# EAGLE library part 691321100012 (library Wurth_Connectors_WR-TBL Pluggable Connector)
WR-TBL Serie 3211 - 3.50 mm Vertical PCB Header KIND PROPERTIES Pitch 3.5 mm MATERIAL PROPERTIES Insulator Material PA66 Insulator Flammability Rating UL94 V-0 Contact Material Brass Contact Plating Tin GENERAL INFORMATION Operating Temperature -40 up to +105 °C Compliance RoHS ELECTRICAL PROPERTIES IR cULus 10 A IR VDE 10.5 A Working Voltage [cULus] 300 V (AC) Working Voltage [VDE] 300 V (AC) Withstanding Voltage [cULus] 1600 V (AC) Withstanding Voltage [VDE] 2500 V (AC) Contact Resistance [cULus] 20 mΩ Contact Resistance [VDE] 20 mΩ CERTIFICATION cULus Approval E315414 VDE Approval 40023195 <https://www.we-online.com/catalog/media/o33274v209%20Family_WR-TBL_69132110000x.jpg> Details see: https://www.we-online.com/catalog/en/TBL_3_50_3211_VERTICAL_PCB_HEADER_69132110000X/ Updated by Ella Wu 2019-12-18 2022(C) Wurth Elektronik
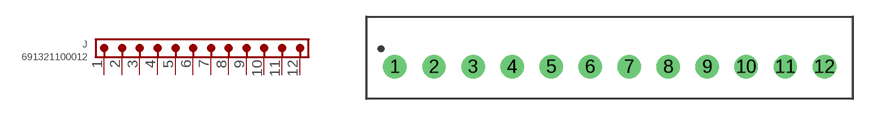
[diagram p103: symbol with the pads of 691321100012; footprint 691321100012]

Designator prefix J

## 691321100012 (DATASHEET-URL: https://www.we-online.com/redexpert/spec/691321100012?ae; IR-UL: 10A; IR-VDE: 10.5A; MOUNT: THT; PART-NUMBER: 691321100012; PINS: 12; PITCH: 3.5mm; TYPE: Vertical; VALUE: 691321100012; WORKING-VOLTAGE-UL: 300V (AC); WORKING-VOLTAGE-VDE: 300V (AC))  [691321100012]
1  1  pas
2  2  pas
3  3  pas
4  4  pas
5  5  pas
6  6  pas
7  7  pas
8  8  pas
9  9  pas
10  10  pas
11  11  pas
12  12  pas

## Footprint 691321100012 (pad centres in mm)
WR-TBL Serie 3211 - 3.50 mm Vertical PCB Header Max Height = 9.2mm , Pitch 3.5mm , 12pins
drill 1.4: 1 -19.25,0; 2 -15.75,0; 3 -12.25,0; 4 -8.75,0; 5 -5.25,0; 6 -1.75,0; 7 1.75,0; 8 5.25,0; 9 8.75,0; 10 12.25,0; 11 15.75,0; 12 19.25,0